# EAGLE library part IIS2ICLXTR (library iis2iclx)
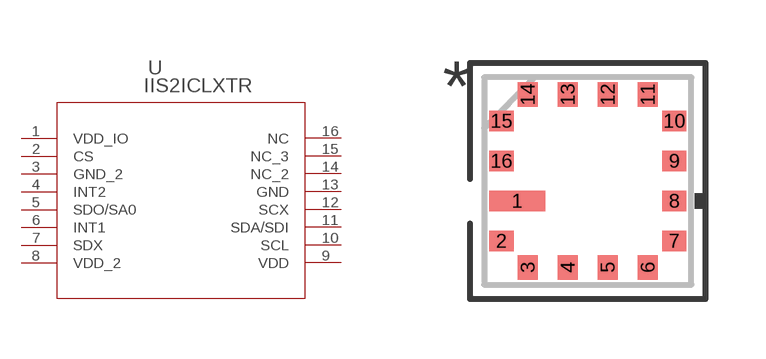
[diagram p0: symbol with the pads of QFN_ICLX_STM; footprint QFN_ICLX_STM]

Designator prefix U

## IIS2ICLXTR (BUILT_BY: EMA_Matt; COPYRIGHT: Copyright (C) 2018 Accelerated Designs. All rights reserved; DATASHEET: https://www.st.com/resource/en/datasheet/iis2iclx.pdf; MANUFACTURER_PART_NUMBER: IIS2ICLXTR; SOURCELIBRARY: Updates_to_database_2020-11-03; VENDOR: STMicroelectronics)  [QFN_ICLX_STM]
1  VDD_IO  pwr
2  CS  pas
3  GND_2  pas
4  INT2  in
5  SDO/SA0  pas
6  INT1  in
7  SDX  pas
8  VDD_2  pwr
9  VDD  pwr
10  SCL  pas
11  SDA/SDI  pas
12  SCX  pas
13  GND  pas
14  NC_2  nc
15  NC_3  nc
16  NC  nc

## Footprint QFN_ICLX_STM (pad centres in mm)
smd 1.397 x 0.508: 1 -1.767,-0.5
smd 0.61 x 0.508: 2 -2.161,-1.5; 7 2.161,-1.5; 8 2.161,-0.5; 9 2.161,0.5; 10 2.161,1.5; 15 -2.161,1.5; 16 -2.161,0.5
smd 0.508 x 0.61: 3 -1.5,-2.161; 4 -0.5,-2.161; 5 0.5,-2.161; 6 1.5,-2.161; 11 1.5,2.161; 12 0.5,2.161; 13 -0.5,2.161; 14 -1.5,2.161